# EAGLE library part HEADER-1X20 (library Header and Connector)
HEADER 1X20
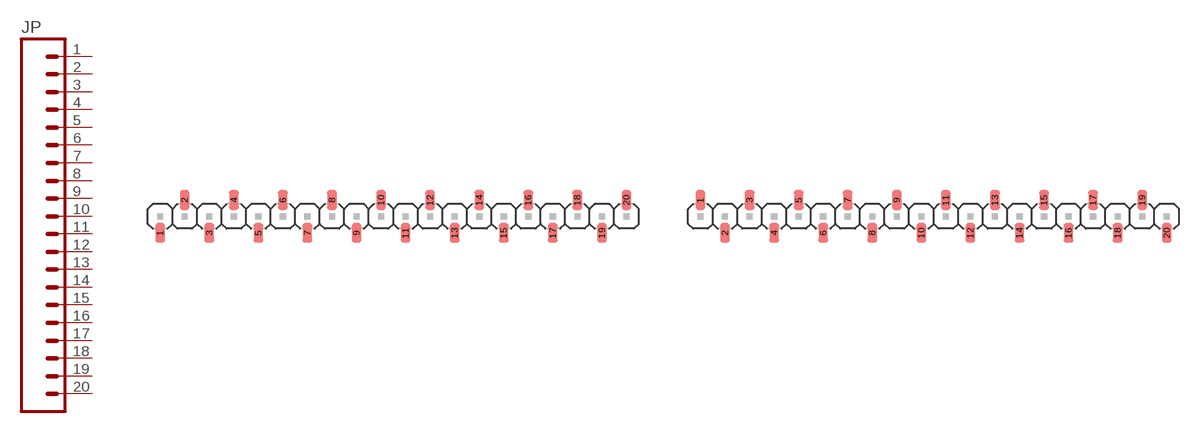
[diagram p46: symbol with the pads of S-HDR-M1X20; footprints S-HDR-M1X20, S-HDR-M1X20-TYP2]

Designator prefix JP

## HEADER-1X20_(SMD-MALE-TYPE1) (DESC: SMD Straight Male Header 1x20 Ways; VALUE: 20 Ways)  [S-HDR-M1X20]
1  1  pas
2  2  pas
3  3  pas
4  4  pas
5  5  pas
6  6  pas
7  7  pas
8  8  pas
9  9  pas
10  10  pas
11  11  pas
12  12  pas
13  13  pas
14  14  pas
15  15  pas
16  16  pas
17  17  pas
18  18  pas
19  19  pas
20  20  pas

## HEADER-1X20_(SMD-MALE-TYPE2) (DESC: SMD Straight Male Header 1x20 Ways Type 2; VALUE: 20 Ways)  [S-HDR-M1X20-TYP2]
Pads as for S-HDR-M1X20

## HEADER-1X20_(SMD-MALE-TYPE2-NOSILK) (DESC: SMD Straight Male Header 1x20 Ways Type 2; VALUE: 20 Ways)  [S-HDR-M1X20-TYP2-NOSILK]
Pads as for S-HDR-M1X20

## Footprint S-HDR-M1X20 (pad centres in mm)
SMD Male Header 1x20 Created by: Wai Weng
smd 1 x 2: 1 0,-1.7; 2 2.54,1.7; 3 5.08,-1.7; 4 7.62,1.7; 5 10.16,-1.7; 6 12.7,1.7; 7 15.24,-1.7; 8 17.78,1.7; 9 20.32,-1.7; 10 22.86,1.7; 11 25.4,-1.7; 12 27.94,1.7; 13 30.48,-1.7; 14 33.02,1.7; 15 35.56,-1.7; 16 38.1,1.7; 17 40.64,-1.7; 18 43.18,1.7; 19 45.72,-1.7; 20 48.26,1.7

## Footprint S-HDR-M1X20-TYP2 (pad centres in mm)
SMD Male Header 1x20 Type 2 Created by: Wai Weng
smd 1 x 2: 1 0,1.7; 2 2.54,-1.7; 3 5.08,1.7; 4 7.62,-1.7; 5 10.16,1.7; 6 12.7,-1.7; 7 15.24,1.7; 8 17.78,-1.7; 9 20.32,1.7; 10 22.86,-1.7; 11 25.4,1.7; 12 27.94,-1.7; 13 30.48,1.7; 14 33.02,-1.7; 15 35.56,1.7; 16 38.1,-1.7; 17 40.64,1.7; 18 43.18,-1.7; 19 45.72,1.7; 20 48.26,-1.7

## Footprint S-HDR-M1X20-TYP2-NOSILK (pad centres in mm)
SMD Male Header 1x20 Type 2 (Without Top Overlay) Created by: Wai Weng
smd 1 x 2: 1 0,1.7; 2 2.54,-1.7; 3 5.08,1.7; 4 7.62,-1.7; 5 10.16,1.7; 6 12.7,-1.7; 7 15.24,1.7; 8 17.78,-1.7; 9 20.32,1.7; 10 22.86,-1.7; 11 25.4,1.7; 12 27.94,-1.7; 13 30.48,1.7; 14 33.02,-1.7; 15 35.56,1.7; 16 38.1,-1.7; 17 40.64,1.7; 18 43.18,-1.7; 19 45.72,1.7; 20 48.26,-1.7